# EAGLE library part GIGABLOX_NANO_SWITCH_REVA_MODULE (library GIGABLOX_NANO_SWITCH_REVA_MODULE)
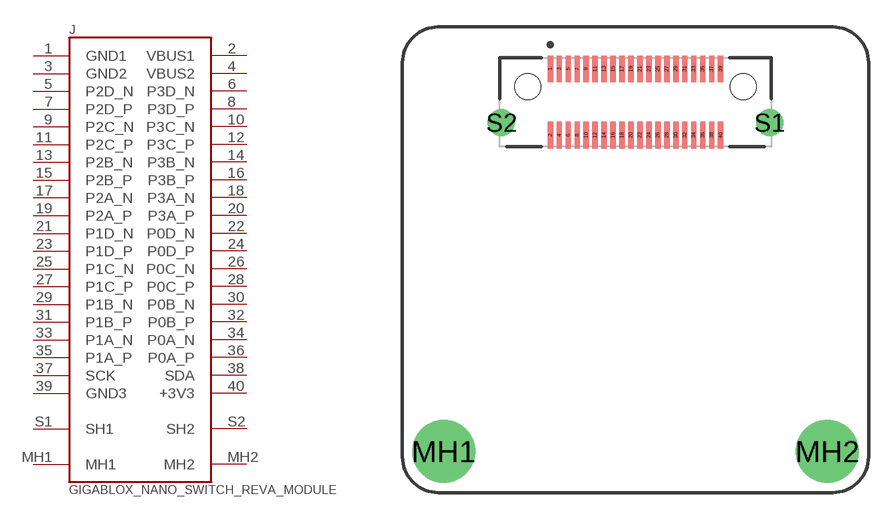
[diagram p0: symbol with the pads of LSHM-120-02.5-L-DV-A-S-K-TR; footprint LSHM-120-02.5-L-DV-A-S-K-TR]

Designator prefix J

## GIGABLOX_NANO_SWITCH_REVA_MODULE  [LSHM-120-02.5-L-DV-A-S-K-TR]
1  GND1  pwr
2  VBUS1  pwr
3  GND2  pwr
4  VBUS2  pwr
5  P2D_N
6  P3D_N
7  P2D_P
8  P3D_P
9  P2C_N
10  P3C_N
11  P2C_P
12  P3C_P
13  P2B_N
14  P3B_N
15  P2B_P
16  P3B_P
17  P2A_N
18  P3A_N
19  P2A_P
20  P3A_P
21  P1D_N
22  P0D_N
23  P1D_P
24  P0D_P
25  P1C_N
26  P0C_N
27  P1C_P
28  P0C_P
29  P1B_N
30  P0B_N
31  P1B_P
32  P0B_P
33  P1A_N
34  P0A_N
35  P1A_P
36  P0A_P
37  SCK
38  SDA
39  GND3
40  +3V3  pwr
MH1  MH1
MH2  MH2
S1  SH1
S2  SH2

## Footprint LSHM-120-02.5-L-DV-A-S-K-TR (pad centres in mm)
smd 0.3 x 1.5: 1 -4.75,1.85; 2 -4.75,-1.85; 3 -4.25,1.85; 4 -4.25,-1.85; 5 -3.75,1.85; 6 -3.75,-1.85; 7 -3.25,1.85; 8 -3.25,-1.85; 9 -2.75,1.85; 10 -2.75,-1.85; 11 -2.25,1.85; 12 -2.25,-1.85; 13 -1.75,1.85; 14 -1.75,-1.85; 15 -1.25,1.85; 16 -1.25,-1.85; 17 -0.75,1.85; 18 -0.75,-1.85; 19 -0.25,1.85; 20 -0.25,-1.85; 21 0.25,1.85; 22 0.25,-1.85; 23 0.75,1.85; 24 0.75,-1.85; 25 1.25,1.85; 26 1.25,-1.85; 27 1.75,1.85; 28 1.75,-1.85; 29 2.25,1.85; 30 2.25,-1.85; 31 2.75,1.85; 32 2.75,-1.85; 33 3.25,1.85; 34 3.25,-1.85; 35 3.75,1.85; 36 3.75,-1.85; 37 4.25,1.85; 38 4.25,-1.85; 39 4.75,1.85; 40 4.75,-1.85
drill 2.2 pad 3.5: MH1 -10.7,-19.5; MH2 10.7,-19.5
drill 1 pad 1.5: S1 7.475,-1.15; S2 -7.475,-1.15
hole 1.45 at 6,0.85
hole 1.45 at -6,0.85